# Altium footprint library 2020-10-06_10-46-00.PcbLib: 1 footprints
Each footprint in its own frame and in the unit in brackets; x right, y up, seen from the top. Pads: shape width x height; smd on the part's side, far side on the other; paste and mask are expansions set on the pad; w line width, h text height; cw(c..) or ccw(c..) is an arc to the next point about the centre after c.
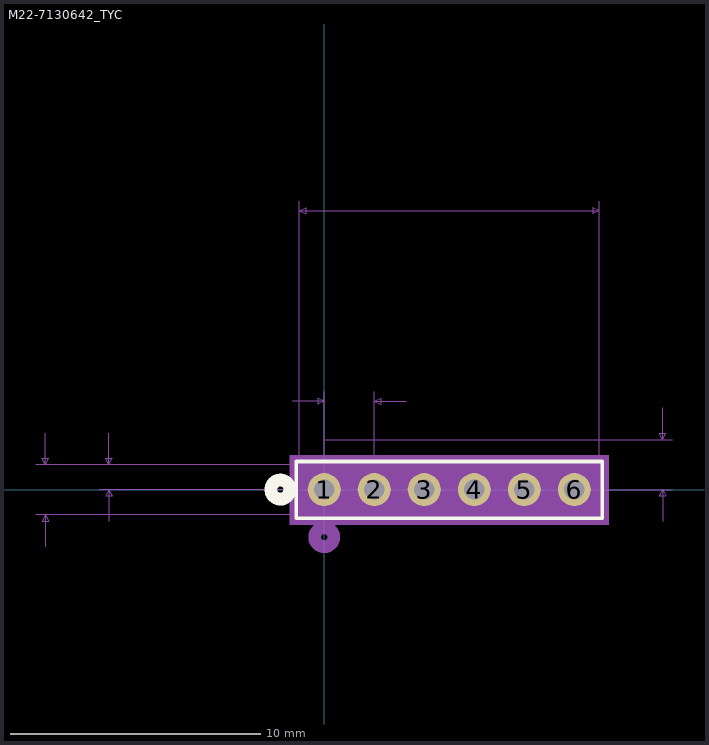
[diagram p0: the footprint, top view; thin cyan lines are the x and y axes]

## M22-7130642_TYC [mil]
pads (6):
  round 52 hole 32 mask+0: 1(0,0) 2(78.74,0) 3(157.48,0) 4(236.22,0) 5(314.96,0) 6(393.7,0)
Top Overlay:
  circle w20: c-69.15,0 r15
  lines w6: -44.15,-45 437.85,-45 437.85,44 -44.15,44 -44.15,-45
Bottom Overlay:
  circle w20: c-69.15,0 r15
Mechanical 5:
  region: -54.15,54 447.85,54 447.85,-55 -54.15,-55
Mechanical 7:
  lines w1: -454.15,-40 -39.15,-40 ; -454.15,39 -39.15,39 ; -439.15,-90 -439.15,-40 ; -439.15,89 -439.15,39 ; -354.15,0 196.85,0 ; -354.15,39 -39.15,39 ; -339.15,-50 -339.15,0 ; -339.15,89 -339.15,39 ; -50,139 0,139 ; -39.15,454 -39.15,39 ; 0,78.74 547.85,78.74 ; 0,154 0,0 547.85,0 ; 78.74,0 78.74,154 ; 128.74,139 78.74,139 ; 432.85,39 432.85,454 ; 532.85,-50 532.85,0 ; 532.85,128.74 532.85,78.74 ; -439.15,-40 -444.15,-50 -434.15,-50 -439.15,-40 ; -439.15,39 -444.15,49 -434.15,49 -439.15,39 ; -339.15,0 -344.15,-10 -334.15,-10 -339.15,0 ; -339.15,39 -344.15,49 -334.15,49 -339.15,39 ; -39.15,439 432.85,439 ; -39.15,439 -29.15,444 -29.15,434 -39.15,439 ; 0,139 -10,144 -10,134 0,139 ; 78.74,139 88.74,144 88.74,134 78.74,139 ; 432.85,439 422.85,444 422.85,434 432.85,439 ; 532.85,0 527.85,-10 537.85,-10 532.85,0 ; 532.85,78.74 527.85,88.74 537.85,88.74 532.85,78.74
  text "Default Padstyle: c132h81" at -115.65,-190 h50
  text "1st Mtg Padstyle: c203h127" at -128.15,-265 h50
  text "2nd Mtg Padstyle: c178h178" at -128.15,-340 h50
  text "3rd Mtg Padstyle: c178h178" at -128.15,-415 h50
  text "Left Mtg Padstyle: c152h76" at -128.15,-490 h50
  text "Right Mtg Padstyle: c152h76" at -140.65,-565 h50
  text "Alt Padstyle 1: b152_229h76" at -140.65,-640 h50
  text "Alt Padstyle 2: b229_152h76" at -140.65,-715 h50
  text "0.079in/2mm" at -9.69,159 h25
  text "0.472in/11.989mm" at 96.85,459 h25
  text "0.079in/2mm" at 552.85,-12.5 h25
  text "0.039in/0.991mm" at -546.65,7 h25
  text "0.079in/2.007mm" at -646.65,7 h25
Mechanical 13:
  circle w20: c0,-75 r15
  lines w1: -39.15,-40 432.85,-40 432.85,39 -39.15,39 -39.15,-40
Mechanical 15:
  region: 442.85,49 -49.15,49 -49.15,-50 442.85,-50
  region: 432.85,39 -39.15,39 -39.15,-40 432.85,-40
  lines w6: -49.15,-50 -49.15,49 442.85,49 442.85,-50 -49.15,-50
3D body: height 10, standoff 0, extent 0,0 10,10